# Altium footprint library PcbLib.PcbLib: 38 footprints (part 3 of 3)
Each footprint in its own frame and in the unit in brackets; x right, y up, seen from the top. Pads: shape width x height; smd on the part's side, far side on the other; paste and mask are expansions set on the pad; w line width, h text height; cw(c..) or ccw(c..) is an arc to the next point about the centre after c.
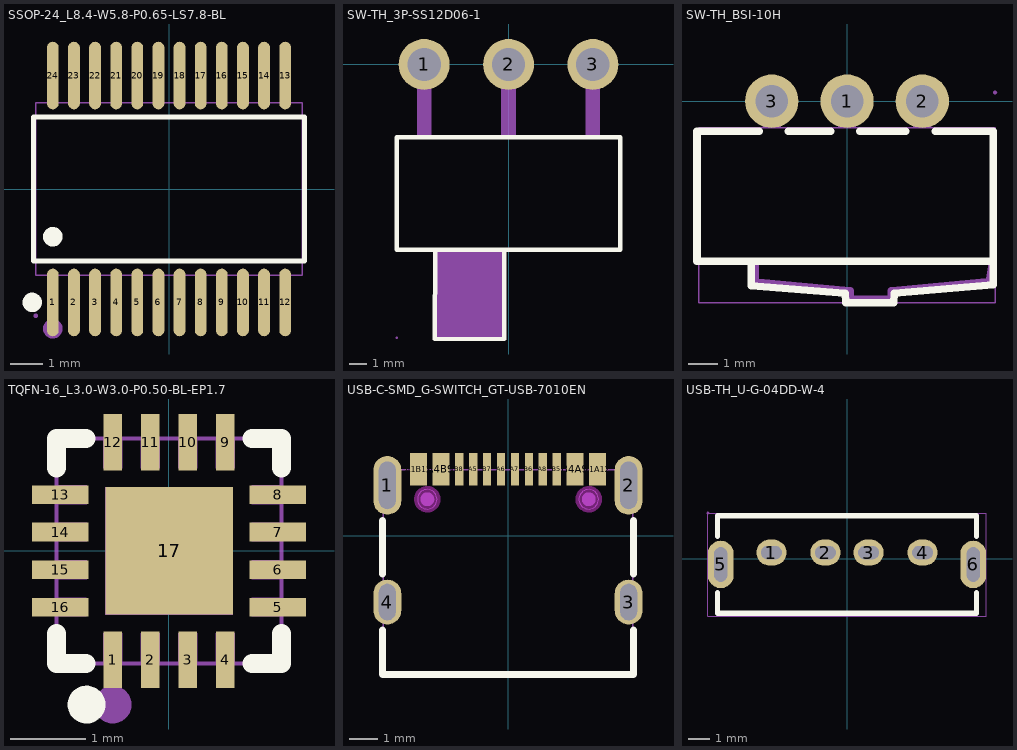
[diagram p2: the footprints below, top view; thin cyan lines are the x and y axes]

## SSOP-24_L8.4-W5.8-P0.65-LS7.8-BL [mm]
pads (24):
  oval 0.364x2.082 smd: 1(-3.575,-3.491) 2(-2.925,-3.491) 3(-2.275,-3.491) 4(-1.625,-3.491) 5(-0.975,-3.491) 6(-0.325,-3.491) 7(0.325,-3.491) 8(0.975,-3.491) 9(1.625,-3.491) 10(2.275,-3.491) 11(2.925,-3.491) 12(3.575,-3.491) 13(3.575,3.491) 14(2.925,3.491) 15(2.275,3.491) 16(1.625,3.491) 17(0.975,3.491) 18(0.325,3.491) 19(-0.325,3.491) 20(-0.975,3.491) 21(-1.625,3.491) 22(-2.275,3.491) 23(-2.925,3.491) 24(-3.575,3.491)
Top Overlay:
  circle w0.3: c-4.209,-3.491 r0.15
  circle w0.3: c-3.575,-1.469 r0.15
  lines w0.152: -4.176,-2.221 4.176,-2.221 4.176,2.221 -4.176,2.221 -4.176,-2.221
Mechanical 6:
  circle w0.3: c-3.575,-4.3 r0.15
Mechanical 15:
  drawing of 53 lines, arcs and shapes, not listed

## SW-TH_3P-SS12D06-1 [mm]
pads (3):
  round 2.9 hole 1.9: 1(-4.8,0) 2(0,0) 3(4.8,0)
Top Overlay:
  lines w0.254: -4.162,-10.551 -4.191,-15.621 -0.254,-15.621 -0.25,-10.551 ; -6.35,-10.55 -6.35,-4.15 6.35,-4.15 6.35,-10.55 -6.35,-10.55
Mechanical 6:
  region: -4.191,-10.541 -0.254,-10.541 -0.254,-15.621 -4.191,-15.621
Mechanical 15:
  region: -6.29,-15.55 -6.29,-15.525 -6.325,-15.49 -6.375,-15.49 -6.41,-15.525 -6.41,-15.55 -6.41,-15.575 -6.375,-15.61 -6.325,-15.61 -6.29,-15.575 -6.29,-15.55
  region: -0.4,0.65 0.4,0.65 0.4,-4.16 -0.4,-4.16
  region: 0.4,-0.65 -0.4,-0.65 -0.4,0.65 0.4,0.65
  region: 5.2,-0.65 4.4,-0.65 4.4,0.65 5.2,0.65
  region: -4.4,-0.65 -5.2,-0.65 -5.2,0.65 -4.4,0.65
  region: -5.2,0.65 -4.4,0.65 -4.4,-4.16 -5.2,-4.16
  region: 4.4,0.65 5.2,0.65 5.2,-4.16 4.4,-4.16
  lines w0.051: -6.35,-10.55 -4.15,-10.55 -4.15,-15.55 -0.25,-15.55 -0.25,-10.55 6.35,-10.55 6.35,-4.15 -6.35,-4.15 -6.35,-10.55

## SW-TH_BSI-10H [mm]
pads (3):
  round 1.8 hole 1.1: 1(0,0) 2(2.54,0) 3(-2.54,0)
Top Overlay:
  lines w0.254: -3.231,-5.4 -3.238,-6.223 -0.064,-6.477 -0.043,-6.8 1.583,-6.8 1.587,-6.477 4.937,-6.19 4.937,-5.4 ; -2.97,-1.016 -5.064,-1.016 -5.064,-5.4 4.937,-5.4 ; -1.983,-1.016 -0.557,-1.016 ; 0.43,-1.016 1.983,-1.016 ; 2.97,-1.016 4.889,-1.016 ; 4.937,-1.016 4.937,-5.4
Mechanical 6:
  region: -2.972,-5.499 -2.972,-5.985 0.111,-6.274 0.135,-6.277 0.177,-6.298 0.209,-6.333 0.226,-6.377 0.226,-6.401 0.226,-6.574 1.374,-6.574 1.374,-6.401 1.374,-6.377 1.391,-6.333 1.423,-6.298 1.466,-6.276 1.49,-6.274 4.691,-5.982 4.774,-5.478 4.783,-5.426 4.869,-5.365 4.972,-5.382 5.034,-5.468 5.025,-5.52 4.925,-6.121 4.922,-6.142 4.902,-6.179 4.871,-6.207 4.833,-6.225 4.812,-6.226 1.628,-6.517 1.628,-6.701 1.628,-6.726 1.609,-6.772 1.573,-6.808 1.526,-6.828 1.501,-6.828 0.099,-6.828 0.074,-6.828 0.027,-6.808 -0.009,-6.772 -0.028,-6.726 -0.028,-6.701 -0.028,-6.516 -3.111,-6.228 -3.134,-6.225 -3.177,-6.204 -3.209,-6.169 -3.226,-6.125 -3.226,-6.101 -3.226,-5.499 -3.226,-5.446 -3.151,-5.372 -3.046,-5.372 -2.972,-5.446 -2.972,-5.499
Mechanical 15:
  region: -2.84,0.3 -2.24,0.3 -2.24,-0.91 -2.84,-0.91
  region: 2.24,0.3 2.84,0.3 2.84,-0.91 2.24,-0.91
  region: -0.3,0.3 0.3,0.3 0.3,-0.91 -0.3,-0.91
  region: 0.3,-0.3 -0.3,-0.3 -0.3,0.3 0.3,0.3
  region: 2.84,-0.3 2.24,-0.3 2.24,0.3 2.84,0.3
  region: -2.24,-0.3 -2.84,-0.3 -2.84,0.3 -2.24,0.3
  region: 5.06,0.3 5.059,0.324 5.024,0.359 4.975,0.359 4.941,0.324 4.94,0.3 4.941,0.275 4.976,0.241 5.025,0.241 5.059,0.276 5.06,0.3
  lines w0.051: -5,-6.8 5,-6.8 5,-0.9 -5,-0.9 -5,-6.8

## TQFN-16_L3.0-W3.0-P0.50-BL-EP1.7 [mm]
pads (17):
  rect 0.25x0.75 smd paste-100 mask+0.051: 1(-0.748,-1.45) 2(-0.249,-1.45) 3(0.252,-1.45) 4(0.751,-1.45) 9(0.75,1.45) 10(0.25,1.45) 11(-0.25,1.45) 12(-0.749,1.45)
  rect 0.75x0.25 smd paste-100 mask+0.051: 5(1.45,-0.75) 6(1.45,-0.25) 7(1.45,0.25) 8(1.45,0.75) 13(-1.45,0.75) 14(-1.45,0.25) 15(-1.45,-0.25) 16(-1.45,-0.75)
  rect 1.7x1.7 smd paste-100 mask+0.051: 17(0,0)
Top Overlay:
  circle w0.254: c-1.1,-2.05 r0.125
  lines w0.254: -1.5,-1.104 -1.5,-1.5 -1.105,-1.5 ; -1.5,1.108 -1.5,1.5 -1.105,1.5 ; 1.106,1.5 1.5,1.5 1.5,1.108 ; 1.108,-1.5 1.5,-1.5 1.5,-1.104
Top Paste:
  region: 0.876,-1.075 0.626,-1.075 0.626,-1.825 0.876,-1.825
  region: 0.377,-1.075 0.127,-1.075 0.127,-1.825 0.377,-1.825
  region: -0.124,-1.075 -0.374,-1.075 -0.374,-1.825 -0.124,-1.825
  region: -0.623,-1.075 -0.873,-1.075 -0.873,-1.825 -0.623,-1.825
  region: 0.876,1.825 0.626,1.825 0.626,1.075 0.876,1.075
  region: 0.376,1.825 0.126,1.825 0.126,1.075 0.376,1.075
  region: -0.124,1.825 -0.374,1.825 -0.374,1.075 -0.124,1.075
  region: -0.624,1.825 -0.874,1.825 -0.874,1.075 -0.624,1.075
  region: 1.825,-0.875 1.825,-0.625 1.075,-0.625 1.075,-0.875
  region: 1.825,-0.375 1.825,-0.125 1.075,-0.125 1.075,-0.375
  region: 1.825,0.125 1.825,0.375 1.075,0.375 1.075,0.125
  region: 1.825,0.625 1.825,0.875 1.075,0.875 1.075,0.625
  region: -1.075,-0.875 -1.075,-0.625 -1.825,-0.625 -1.825,-0.875
  region: -1.075,-0.375 -1.075,-0.125 -1.825,-0.125 -1.825,-0.375
  region: -1.075,0.125 -1.075,0.375 -1.825,0.375 -1.825,0.125
  region: -1.075,0.625 -1.075,0.875 -1.825,0.875 -1.825,0.625
  region: -0.68,0.68 0.68,0.68 0.68,-0.68 -0.68,-0.68
Mechanical 6:
  circle w0.25: c-0.75,-2.05 r0.125
Mechanical 15:
  region: -0.85,0.85 0.85,0.85 0.85,-0.85 -0.85,-0.85
  region: -0.623,-1.5 -0.873,-1.5 -0.873,-1.1 -0.623,-1.1
  region: -0.124,-1.5 -0.374,-1.5 -0.374,-1.1 -0.124,-1.1
  region: 0.377,-1.5 0.127,-1.5 0.127,-1.1 0.377,-1.1
  region: 0.876,-1.5 0.626,-1.5 0.626,-1.1 0.876,-1.1
  region: 1.1,-0.875 1.1,-0.625 1.5,-0.625 1.5,-0.875
  region: 1.1,-0.375 1.1,-0.125 1.5,-0.125 1.5,-0.375
  region: 1.1,0.125 1.1,0.375 1.5,0.375 1.5,0.125
  region: 1.1,0.625 1.1,0.875 1.5,0.875 1.5,0.625
  region: 0.625,1.5 0.875,1.5 0.875,1.1 0.625,1.1
  region: 0.125,1.5 0.375,1.5 0.375,1.1 0.125,1.1
  region: -0.374,1.5 -0.124,1.5 -0.124,1.1 -0.374,1.1
  region: -0.874,1.5 -0.624,1.5 -0.624,1.1 -0.874,1.1
  region: -1.1,0.875 -1.1,0.625 -1.5,0.625 -1.5,0.875
  region: -1.1,0.375 -1.1,0.125 -1.5,0.125 -1.5,0.375
  region: -1.1,-0.125 -1.1,-0.375 -1.5,-0.375 -1.5,-0.125
  region: -1.1,-0.625 -1.1,-0.875 -1.5,-0.875 -1.5,-0.625
  region: -1.56,-1.5 -1.56,-1.525 -1.525,-1.56 -1.475,-1.56 -1.44,-1.525 -1.44,-1.5 -1.44,-1.475 -1.475,-1.44 -1.525,-1.44 -1.56,-1.475 -1.56,-1.5
  lines w0.051: -1.5,-1.5 -1.5,1.5 1.5,1.5 1.5,-1.5 -1.5,-1.5

## USB-C-SMD_G-SWITCH_GT-USB-7010EN [mm]
pads (16):
  oval 1x2.1 hole 0.6 slot 1.7 at 90 deg paste+0 mask+0.05: 1(-4.32,1.803) 2(4.32,1.803)
  oval 1x1.6 hole 0.6 slot 1.3 at 90 deg paste+0 mask+0.05: 3(4.32,-2.378) 4(-4.32,-2.378)
  rect 0.6x1.15 smd paste-100 mask+0.05: A1B12(-3.2,2.378) A4B9(-2.4,2.378) B1A12(3.2,2.378) B4A9(2.4,2.378)
  rect 0.3x1.15 smd paste-100 mask+0.05: A5(-1.25,2.378) A6(-0.25,2.378) A7(0.25,2.378) A8(1.25,2.378) B5(1.75,2.378) B6(0.75,2.378) B7(-0.75,2.378) B8(-1.75,2.378)
Top Overlay:
  lines w0.254: -4.5,-3.386 -4.5,-4.978 4.5,-4.978 4.5,-3.386 ; -4.5,-1.369 -4.5,0.544 ; 4.5,-1.369 4.5,0.544
Top Paste:
  drawing of 16 lines, arcs and shapes, not listed
Keep-Out Layer:
  board cut-out: -2.89,1.652 -2.96,1.652 -3.088,1.599 -3.187,1.501 -3.24,1.372 -3.24,1.233 -3.187,1.104 -3.088,1.006 -2.96,0.952 -2.89,0.952 -2.82,0.952 -2.692,1.006 -2.593,1.104 -2.54,1.233 -2.54,1.372 -2.593,1.501 -2.692,1.599 -2.82,1.652 -2.89,1.652
  board cut-out: 2.89,1.652 2.82,1.652 2.692,1.599 2.593,1.5 2.54,1.372 2.54,1.232 2.593,1.104 2.692,1.005 2.82,0.952 2.89,0.952 2.96,0.952 3.088,1.005 3.187,1.104 3.24,1.232 3.24,1.372 3.187,1.5 3.088,1.599 2.96,1.652 2.89,1.652
Keep-Out Layer:
  circle w0.254: c-2.89,1.302 r0.35
  circle w0.005: c-2.89,1.302 r0.35
  circle w0.254: c2.89,1.302 r0.35
  circle w0.005: c2.89,1.302 r0.35
Mechanical 1:
  circle w0.005: c-2.89,1.302 r0.35
  circle w0.005: c2.89,1.302 r0.35
Mechanical 6:
  circle w0.25: c2.89,1.302 r0.125
  circle w0.25: c-2.89,1.302 r0.125
Mechanical 15:
  region: 4.17,-1.978 4.47,-1.978 4.47,-2.778 4.17,-2.778
  region: -4.47,-1.978 -4.17,-1.978 -4.17,-2.778 -4.47,-2.778
  region: -4.47,2.353 -4.17,2.353 -4.17,1.252 -4.47,1.252
  region: 4.17,2.353 4.47,2.353 4.47,1.252 4.17,1.252
  region: 1.65,2.597 1.85,2.597 1.85,1.847 1.65,1.847
  region: 1.15,2.597 1.35,2.597 1.35,1.847 1.15,1.847
  region: 0.65,2.597 0.85,2.597 0.85,1.847 0.65,1.847
  region: 0.15,2.597 0.35,2.597 0.35,1.847 0.15,1.847
  region: -0.35,2.597 -0.15,2.597 -0.15,1.847 -0.35,1.847
  region: -0.85,2.597 -0.65,2.597 -0.65,1.847 -0.85,1.847
  region: -1.35,2.597 -1.15,2.597 -1.15,1.847 -1.35,1.847
  region: -1.85,2.597 -1.65,2.597 -1.65,1.847 -1.85,1.847
  region: 3,2.597 3.4,2.597 3.4,1.847 3,1.847
  region: 2.2,2.597 2.6,2.597 2.6,1.847 2.2,1.847
  region: -2.6,2.597 -2.2,2.597 -2.2,1.847 -2.6,1.847
  region: -3.4,2.597 -3,2.597 -3,1.847 -3.4,1.847
  region: -4.47,2.657 -4.495,2.657 -4.53,2.622 -4.53,2.572 -4.495,2.537 -4.47,2.537 -4.445,2.537 -4.41,2.572 -4.41,2.622 -4.445,2.657 -4.47,2.657
  lines w0.051: -4.47,-4.983 4.47,-4.983 4.47,2.367 -4.47,2.367 -4.47,-4.983

## USB-TH_U-G-04DD-W-4 [mm]
pads (6):
  oval 1.4x1.2 hole 0.6 slot 0.96 at 0 deg: 1(-3.5,0.275) 2(-1,0.275) 3(1,0.275) 4(3.5,0.275)
  oval 1.2x2.2 hole 0.6 slot 1.6 at 90 deg: 5(-5.85,-0.275) 6(5.85,-0.275)
Top Overlay:
  lines w0.254: -6,-1.592 -6,-2.54 6,-2.54 6,-1.592 ; -6,1.042 -6,1.975 6,1.975 6,1.042
Mechanical 15:
  region: -6.39,2.102 -6.391,2.126 -6.426,2.159 -6.474,2.159 -6.509,2.126 -6.51,2.102 -6.509,2.078 -6.474,2.045 -6.426,2.045 -6.391,2.078 -6.39,2.102
  region: -3.68,0.515 -3.32,0.515 -3.32,0.035 -3.68,0.035
  region: -1.18,0.515 -0.82,0.515 -0.82,0.035 -1.18,0.035
  region: 0.82,0.515 1.18,0.515 1.18,0.035 0.82,0.035
  region: 3.32,0.515 3.68,0.515 3.68,0.035 3.32,0.035
  region: -6.09,-0.775 -6.09,0.225 -5.61,0.225 -5.61,-0.775
  region: 5.61,-0.775 5.61,0.225 6.09,0.225 6.09,-0.775
  lines w0.051: -6.45,-2.667 6.45,-2.667 6.45,2.102 -6.45,2.102 -6.45,-2.667